# Altium footprint library R_Template_0805.PcbLib: 1 footprints
Each footprint in its own frame and in the unit in brackets; x right, y up, seen from the top. Pads: shape width x height; smd on the part's side, far side on the other; paste and mask are expansions set on the pad; w line width, h text height; cw(c..) or ccw(c..) is an arc to the next point about the centre after c.
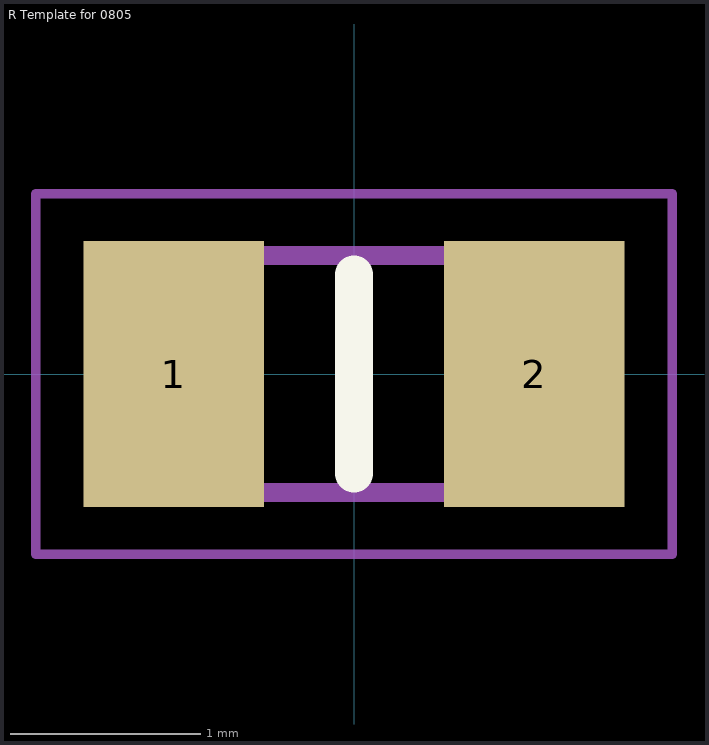
[diagram p0: the footprint, top view; thin cyan lines are the x and y axes]

## R Template for 0805 [mm]
pads (2):
  rect 0.95x1.4 smd: 1(-0.95,0) 2(0.95,0)
Top Overlay:
  lines w0.2: 0,-0.525 0,0.525
  text ".Designator" at -1.27,1.524 h1.52
Mechanical 15:
  lines w0.1: -1,-0.625 -1,0.625 1,0.625 1,-0.625 -1,-0.625
Mechanical 20:
  lines w0.05: -1.675,-0.95 -1.675,0.95 1.675,0.95 1.675,-0.95 -1.675,-0.95